# Altium schematic symbol library Res_PIN.SchLib: 2 symbols
Pins are listed as number, name and electrical type; pins without a type are passive.

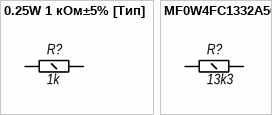
[diagram p0: symbols 0.25W 1 кОм±5% [Тип] to MF0W4FC1332A50]

## 0.25W 1 кОм±5% [Тип]
designator R?, comment 1k
pins: 1, 2

## MF0W4FC1332A50
designator R?, comment 13k3
MF-0,25вт 13,3ком 1% 25PPM
footprint RESAX400W0.25
pins: 1, 2